# Altium schematic symbol library ADA4898-2YRDZ.SchLib: 1 symbol
Pins are listed as number, name and electrical type; pins without a type are passive.

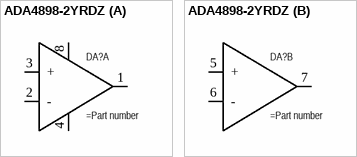
[diagram p0: symbol ADA4898-2YRDZ]

## ADA4898-2YRDZ
designator DA?
High Voltage, Low Noise, Low Distortion, / Unity-Gain Stable, High Speed Op Amp
part A pins: 1 Out, 2 -, 3 +, 4 V-, 8 V+
part B pins: 5 +, 6 -, 7 Out